# Altium schematic symbol library IPM модули.SchLib: 4 symbols
Pins are listed as number, name and electrical type; pins without a type are passive.

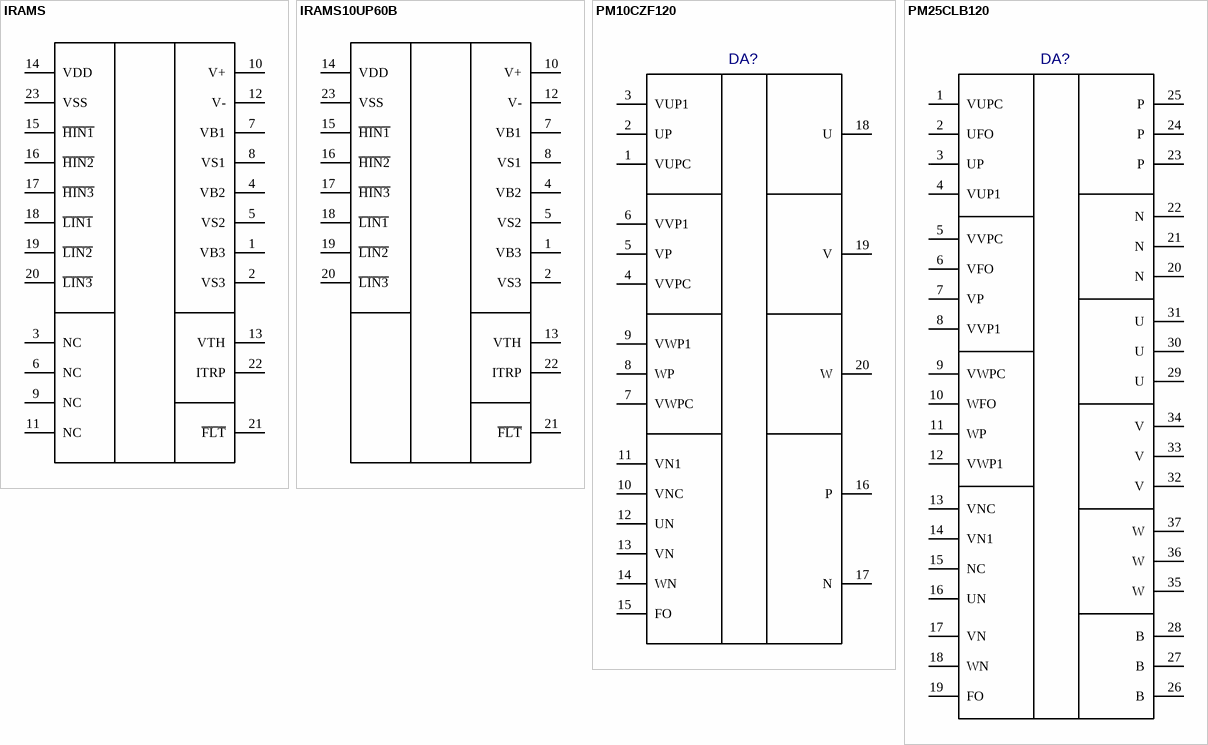
[diagram p0: symbols IRAMS to PM25CLB120]

## IRAMS
designator U?  (value not drawn)
Value: *
pins: 1 VB3, 2 VS3, 3 NC, 4 VB2, 5 VS2, 6 NC, 7 VB1, 8 VS1, 9 NC, 10 V+, 11 NC, 12 V-, 13 VTH, 14 VDD, 15 ~{HIN1}, 16 ~{HIN2}, 17 ~{HIN3}, 18 ~{LIN1}, 19 ~{LIN2}, 20 ~{LIN3}, 21 ~{FLT}, 22 ITRP, 23 VSS

## IRAMS10UP60B
designator DA?  (value not drawn)
Value: *
footprint IRAMS10UP60B
pins: 1 VB3, 2 VS3, 4 VB2, 5 VS2, 7 VB1, 8 VS1, 10 V+, 12 V-, 13 VTH, 14 VDD, 15 ~{HIN1}, 16 ~{HIN2}, 17 ~{HIN3}, 18 ~{LIN1}, 19 ~{LIN2}, 20 ~{LIN3}, 21 ~{FLT}, 22 ITRP, 23 VSS

## PM10CZF120
designator DA?  (value not drawn)
Value: *
footprint PM10CZF120
pins: 1 VUPC, 2 UP, 3 VUP1, 4 VVPC, 5 VP, 6 VVP1, 7 VWPC, 8 WP, 9 VWP1, 10 VNC, 11 VN1, 12 UN, 13 VN, 14 WN, 15 FO, 16 P, 17 N, 18 U, 19 V, 20 W, 21 hidden, 22 hidden

## PM25CLB120
designator DA?  (value not drawn)
Value: *
footprint PM25CLB120
pins: 1 VUPC, 2 UFO, 3 UP, 4 VUP1, 5 VVPC, 6 VFO, 7 VP, 8 VVP1, 9 VWPC, 10 WFO, 11 WP, 12 VWP1, 13 VNC, 14 VN1, 15 NC, 16 UN, 17 VN, 18 WN, 19 FO, 20 N, 21 N, 22 N, 23 P, 24 P, 25 P, 26 B, 27 B, 28 B, 29 U, 30 U, 31 U, 32 V, 33 V, 34 V, 35 W, 36 W, 37 W